# Altium schematic symbol library CMP0603AFX-1002ELF.SchLib: 1 symbol
Pins are listed as number, name and electrical type; pins without a type are passive.

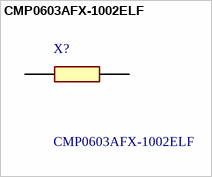
[diagram p0: symbol CMP0603AFX-1002ELF]

## CMP0603AFX-1002ELF
designator X?
Thick Film Resistors - SMD 10K OHM 1% 1/4W TC100; Manufacturer_Name: Bourns; Geometry.Height: 0.55mm; Mouser Part Number: 652-CMP0603AFX-1002L; Mouser Price/Stock: https://www.mouser.co.uk/ProductDetail/Bourns/CMP0603AFX-1002ELF?qs=TiOZkKH1s2Q14lKL9rbzLg%3D%3D; Manufacturer_Part_Number: CMP0603AFX-1002ELF; Datasheet Link: https://www.bourns.com/docs/Product-Datasheets/CMP-A.pdf
footprint RESC1608X55N
pins: 1, 2